# Altium schematic symbol library Maxim Amplifiers and Comparators.SchLib: 420 symbols (part 10 of 16)
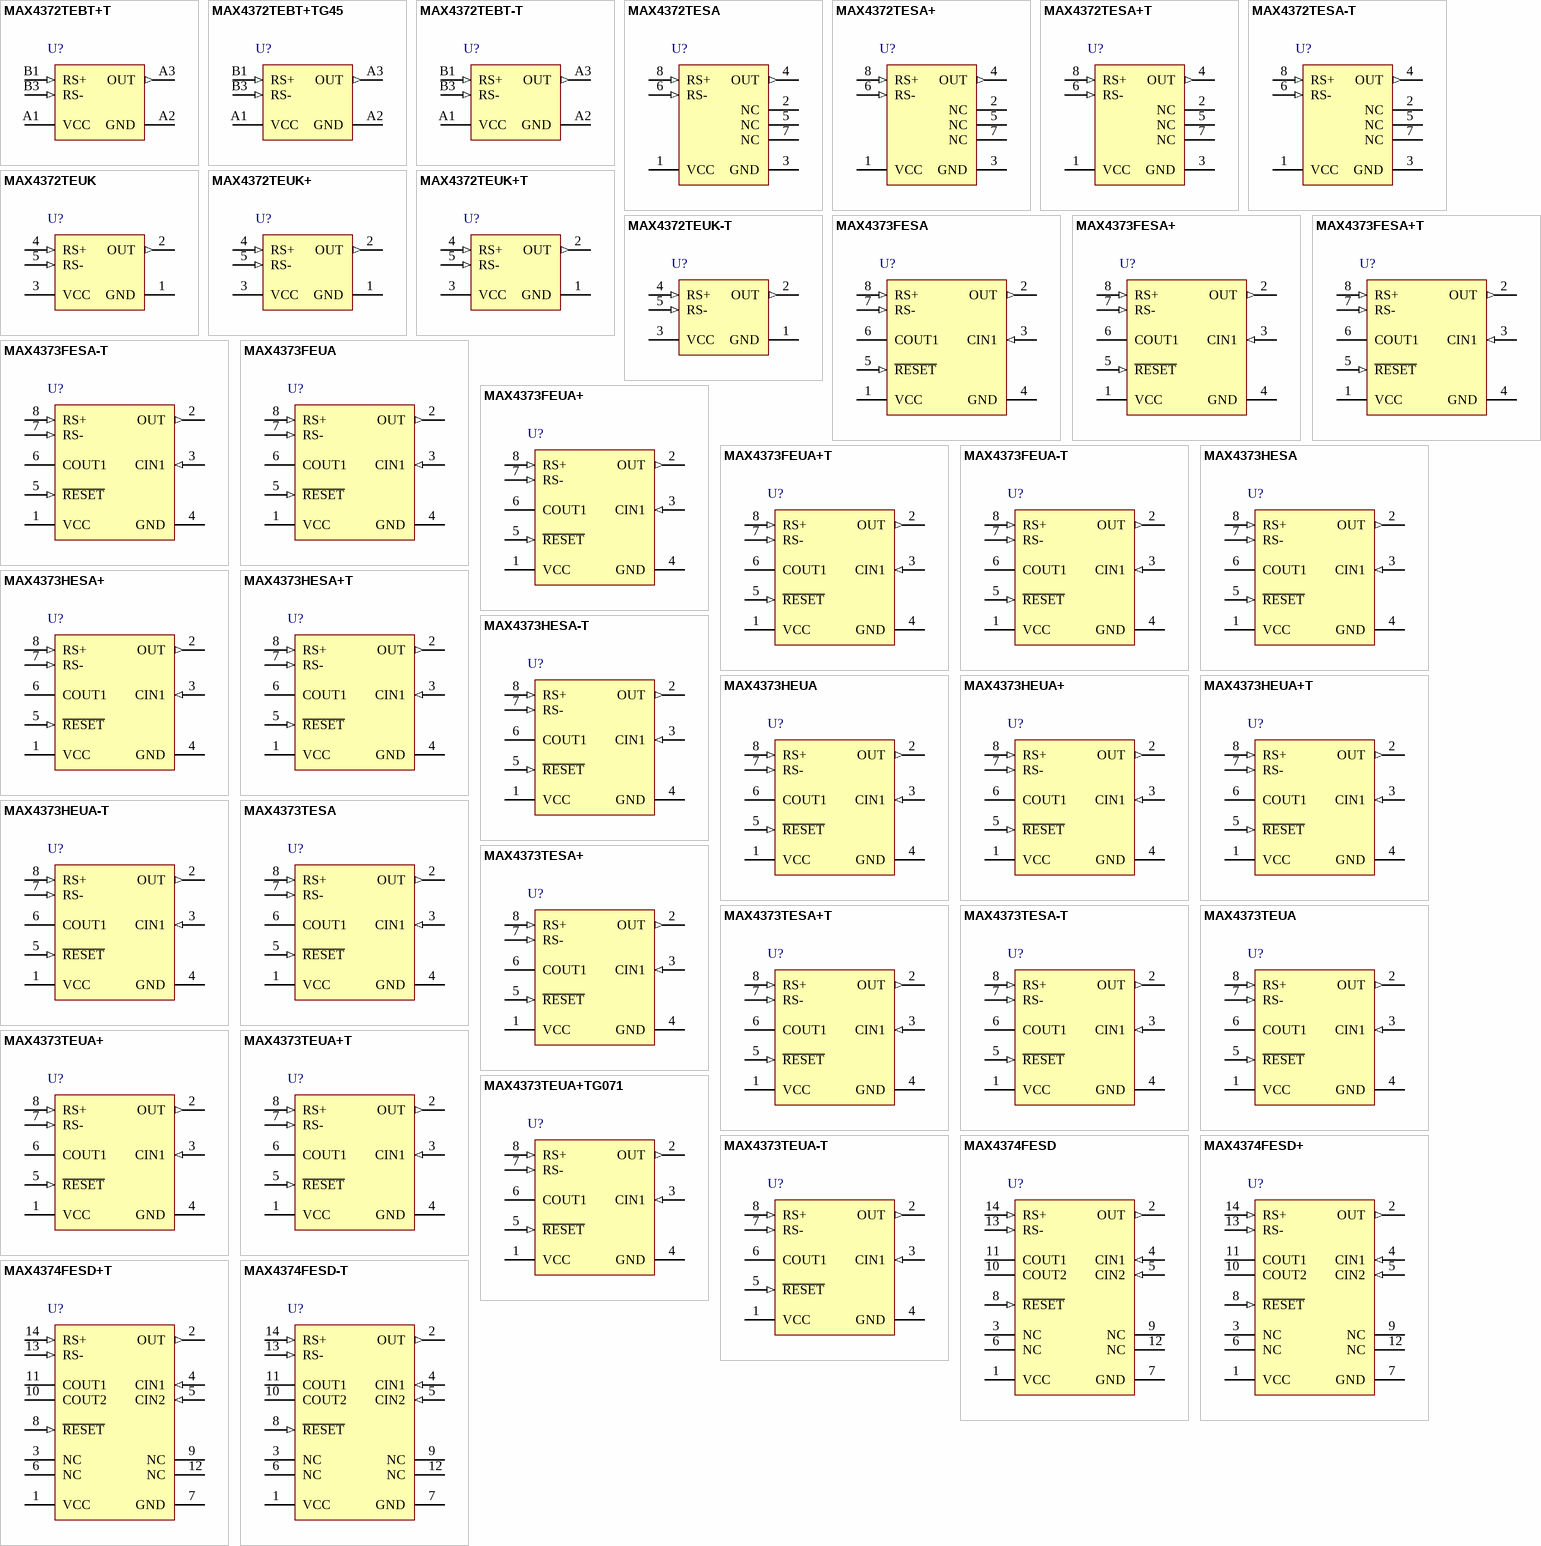
[diagram p19: symbols MAX4372TEBT+T to MAX4374FESD-T]

## MAX4374FESD+T
designator U?
Low-cost, Micropower, High-Side Current-Sense Amplifier + 2 Comparators + Reference, 50 V / V Gain, -40 to 85 degC, 14-Pin SOIC (S14+1), Pb-Free, Tape and Reel; PartNumber: MAX4374FESD+T; Bi-Dir. Curr. Sense: No; Gain: 20 V/V, 50 V/V ,100 V/V; DatasheetVersion: Rev. 4; PackageVersion: Rev. D, 10/2012; PackageReference: S14+1; PackageDescription: 14-Pin Small-Outline IC, Narrow (0.15in), Body 3.9 x 8.65 mm, Pitch 1.27 mm; Supplier 1: Digi-Key; Supplier Part Number 1: MAX4374FESD+T-ND; Supplier 2: Mouser; Supplier Part Number 2: 700-MAX4374FESD+T; Mounting Technology: Surface Mount; Code_JEDEC: MS-012; ComponentLink1Description: Manufacturer URL; ComponentLink1URL: http://www.maximintegrated.com/; ComponentLink2Description: Datasheet; ComponentLink2URL: http://datasheets.maximintegrated.com/en/ds/MAX4373-MAX4375.pdf; ComponentLink3Description: Package Specification; ComponentLink3URL: http://pdfserv.maximintegrated.com/package_dwgs/21-0041.PDF
footprint MAXM-S14+1_N (SOIC, 14-Leads, Body 8.65x3.9mm, Pitch 1.27mm, IPC Medium Density)
footprint MAXM-S14+1_L (SOIC, 14-Leads, Body 8.65x3.9mm, Pitch 1.27mm, IPC High Density)
footprint MAXM-S14+1_M (SOIC, 14-Leads, Body 8.65x3.9mm, Pitch 1.27mm, IPC Low Density)
pins: 1 VCC (power) "Supply Voltage Input", 2 OUT (out) "Voltage Output. VOUT is proportional to VSENSE (VRS+ - VRS-).", 3 NC "No Connection. Not internally connected.", 4 CIN1 (in) "Comparator Input 1. Positive input of an internal comparator. The negative terminal is connected to a 0.6V internal reference.", 5 CIN2 (in) "Comparator Input 2. Terminal of a second internal comparator. The positive terminal for the MAX4374 and the negative terminal for the MAX4375. The other terminal is connected to a 0.6V internal reference.", 6 NC "No Connection. Not internally connected.", 7 GND (power) "Ground", 8 ~{RESET} (in) "Reset Input. Resets the output latch of the comparator at CIN1.", 9 NC "No Connection. Not internally connected.", 10 COUT2 (oc) "Open-Drain Comparator Output. Output of the second unlatched internal comparator.", 11 COUT1 (oc) "Open-Drain Comparator Output. Latching output of the comparator controlled by CIN1. Connect R\E\S\E\T\ to GND to disable the latch.", 12 NC "No Connection. Not internally connected.", 13 RS- (in) "Load-Side Connection for the External Sense Resistor", 14 RS+ (in) "Power Connection to the External Sense Resistor"

## MAX4374FESD-T
designator U?
Low-cost, Micropower, High-Side Current-Sense Amplifier + 2 Comparators + Reference, 50 V / V Gain, -40 to 85 degC, 14-Pin SOIC (S14-1), Tape and Reel; PartNumber: MAX4374FESD-T; Bi-Dir. Curr. Sense: No; Gain: 20 V/V, 50 V/V ,100 V/V; DatasheetVersion: Rev. 4; PackageVersion: Rev. D, 10/2012; PackageReference: S14-1; PackageDescription: 14-Pin Small-Outline IC, Narrow (0.15in), Body 3.9 x 8.65 mm, Pitch 1.27 mm; Supplier 1: Digi-Key; Supplier Part Number 1: MAX4374FESD-T-ND; Supplier 2: Mouser; Supplier Part Number 2: 700-MAX4374FESD-T-; Mounting Technology: Surface Mount; Code_JEDEC: MS-012; ComponentLink1Description: Manufacturer URL; ComponentLink1URL: http://www.maximintegrated.com/; ComponentLink2Description: Datasheet; ComponentLink2URL: http://datasheets.maximintegrated.com/en/ds/MAX4373-MAX4375.pdf; ComponentLink3Description: Package Specification; ComponentLink3URL: http://pdfserv.maximintegrated.com/package_dwgs/21-0041.PDF
footprint MAXM-S14-1_N (SOIC, 14-Leads, Body 8.65x3.9mm, Pitch 1.27mm, IPC Medium Density)
footprint MAXM-S14-1_L (SOIC, 14-Leads, Body 8.65x3.9mm, Pitch 1.27mm, IPC High Density)
footprint MAXM-S14-1_M (SOIC, 14-Leads, Body 8.65x3.9mm, Pitch 1.27mm, IPC Low Density)
pins: 1 VCC (power) "Supply Voltage Input", 2 OUT (out) "Voltage Output. VOUT is proportional to VSENSE (VRS+ - VRS-).", 3 NC "No Connection. Not internally connected.", 4 CIN1 (in) "Comparator Input 1. Positive input of an internal comparator. The negative terminal is connected to a 0.6V internal reference.", 5 CIN2 (in) "Comparator Input 2. Terminal of a second internal comparator. The positive terminal for the MAX4374 and the negative terminal for the MAX4375. The other terminal is connected to a 0.6V internal reference.", 6 NC "No Connection. Not internally connected.", 7 GND (power) "Ground", 8 ~{RESET} (in) "Reset Input. Resets the output latch of the comparator at CIN1.", 9 NC "No Connection. Not internally connected.", 10 COUT2 (oc) "Open-Drain Comparator Output. Output of the second unlatched internal comparator.", 11 COUT1 (oc) "Open-Drain Comparator Output. Latching output of the comparator controlled by CIN1. Connect R\E\S\E\T\ to GND to disable the latch.", 12 NC "No Connection. Not internally connected.", 13 RS- (in) "Load-Side Connection for the External Sense Resistor", 14 RS+ (in) "Power Connection to the External Sense Resistor"

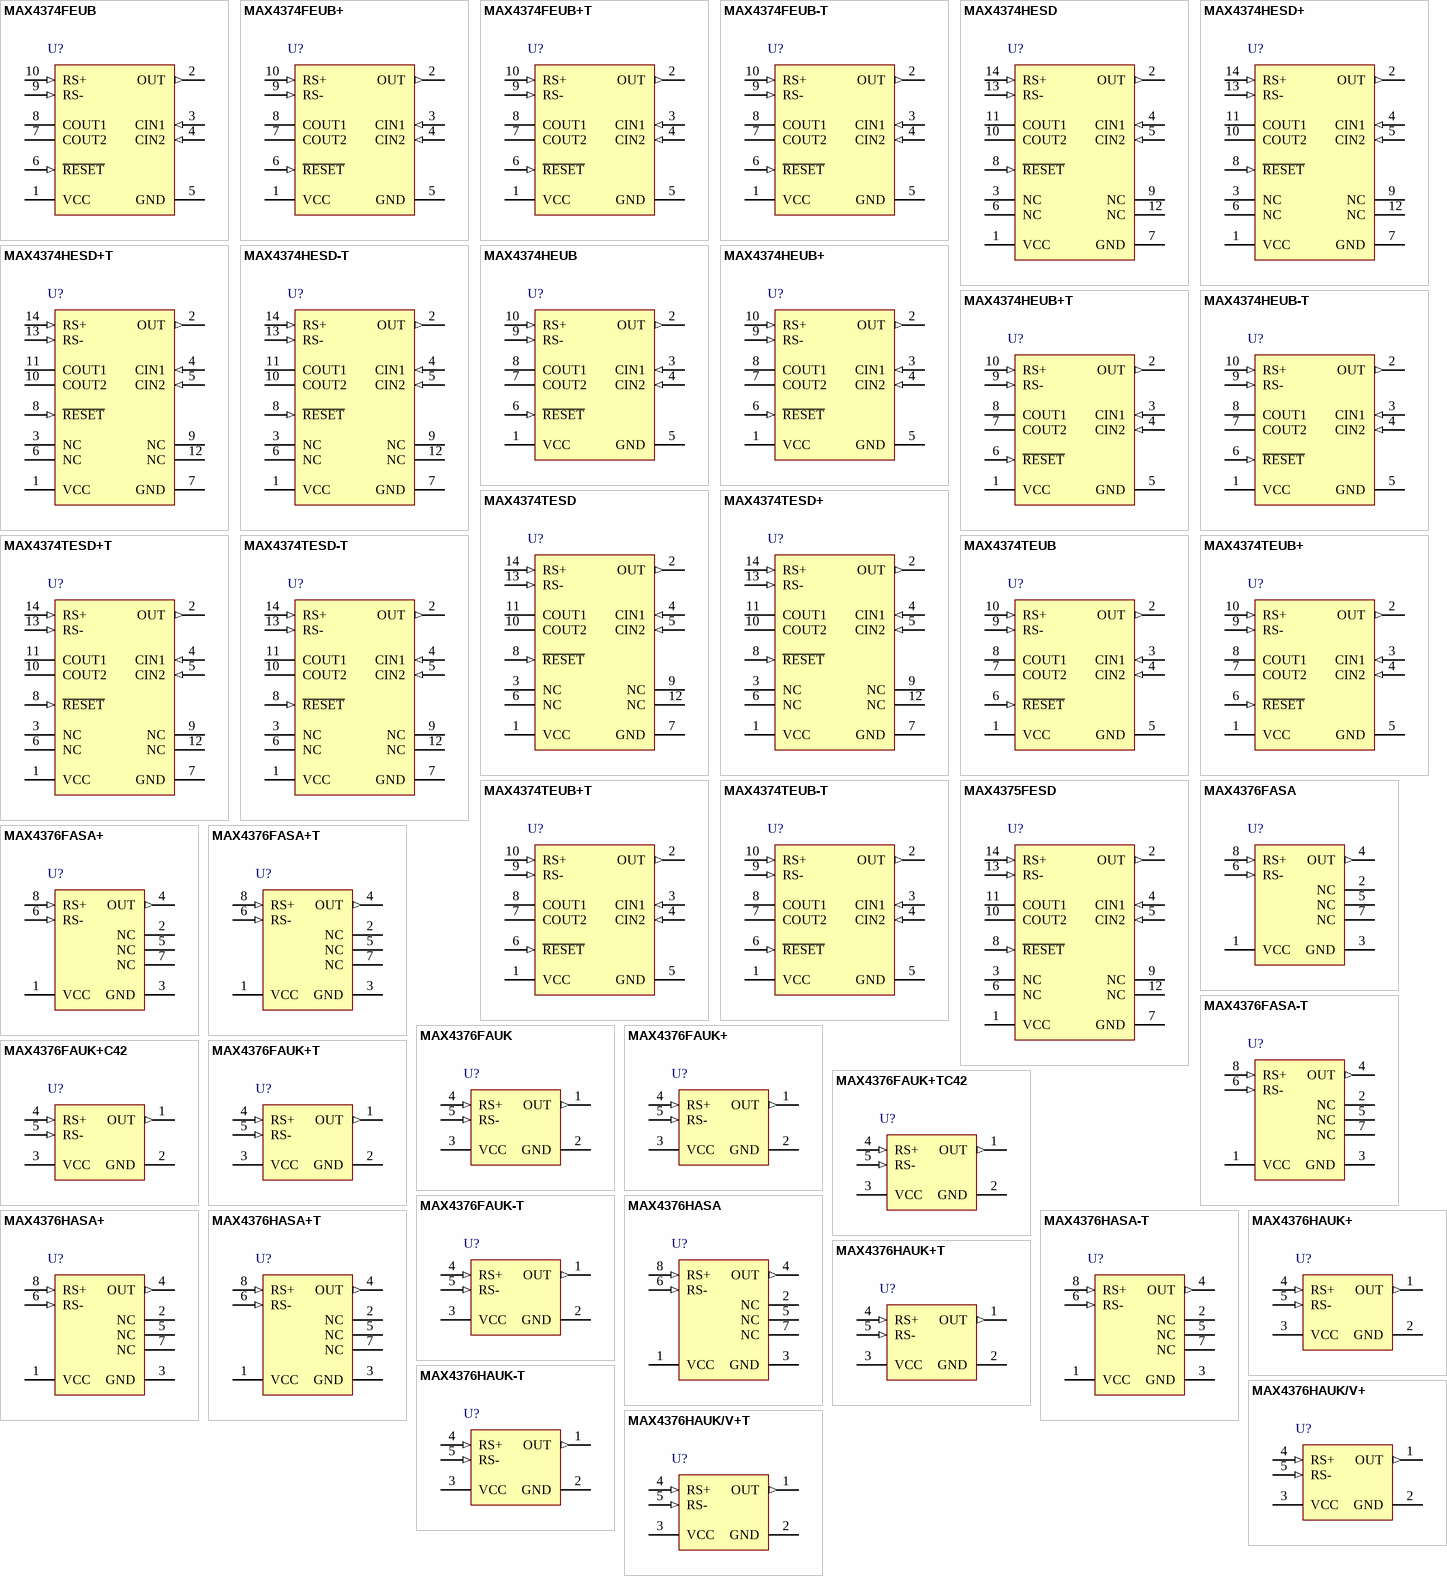
[diagram p6: symbols MAX4374FEUB to MAX4376HAUK/V+T]

## MAX4374FEUB
designator U?
Low-cost, Micropower, High-Side Current-Sense Amplifier + 2 Comparators + Reference, 50 V / V Gain, -40 to 85 degC, 10-Pin SOP (U10-2); PartNumber: MAX4374FEUB; Bi-Dir. Curr. Sense: No; Gain: 20 V/V, 50 V/V ,100 V/V; DatasheetVersion: Rev. 4; PackageVersion: Rev. L, 07/2008; PackageReference: U10-2; PackageDescription: 10-Pin Micro-MAX, Thin Shrink Small-Outline (U10-2), Body 3 x 3 mm, Pitch 0.5 mm; Supplier 1: Mouser; Supplier Part Number 1: N/A; Mounting Technology: Surface Mount; Code_JEDEC: MO-187; ComponentLink1Description: Manufacturer URL; ComponentLink1URL: http://www.maximintegrated.com/; ComponentLink2Description: Datasheet; ComponentLink2URL: http://datasheets.maximintegrated.com/en/ds/MAX4373-MAX4375.pdf; ComponentLink3Description: Package Specification; ComponentLink3URL: http://pdfserv.maximintegrated.com/package_dwgs/21-0061.PDF
footprint MAXM-U10-2_N (SOP, 10-Leads, Body 3x3mm, Pitch 0.5mm, IPC Medium Density)
footprint MAXM-U10-2_L (SOP, 10-Leads, Body 3x3mm, Pitch 0.5mm, IPC High Density)
footprint MAXM-U10-2_M (SOP, 10-Leads, Body 3x3mm, Pitch 0.5mm, IPC Low Density)
pins: 1 VCC (power) "Supply Voltage Input", 2 OUT (out) "Voltage Output. VOUT is proportional to VSENSE (VRS+ - VRS-).", 3 CIN1 (in) "Comparator Input 1. Positive input of an internal comparator. The negative terminal is connected to a 0.6V internal reference.", 4 CIN2 (in) "Comparator Input 2. Terminal of a second internal comparator. The positive terminal for the MAX4374 and the negative terminal for the MAX4375. The other terminal is connected to a 0.6V internal reference.", 5 GND (power) "Ground", 6 ~{RESET} (in) "Reset Input. Resets the output latch of the comparator at CIN1.", 7 COUT2 (oc) "Open-Drain Comparator Output. Output of the second unlatched internal comparator.", 8 COUT1 (oc) "Open-Drain Comparator Output. Latching output of the comparator controlled by CIN1. Connect R\E\S\E\T\ to GND to disable the latch.", 9 RS- (in) "Load-Side Connection for the External Sense Resistor", 10 RS+ (in) "Power Connection to the External Sense Resistor"

## MAX4374FEUB+
designator U?
Low-cost, Micropower, High-Side Current-Sense Amplifier + 2 Comparators + Reference, 50 V / V Gain, -40 to 85 degC, 10-Pin SOP (U10+2), Pb-Free; PartNumber: MAX4374FEUB+; Bi-Dir. Curr. Sense: No; Gain: 20 V/V, 50 V/V ,100 V/V; DatasheetVersion: Rev. 4; PackageVersion: Rev. L, 07/2008; PackageReference: U10+2; PackageDescription: 10-Pin Micro-MAX, Thin Shrink Small-Outline (U10+2), Body 3 x 3 mm, Pitch 0.5 mm; Supplier 1: Digi-Key; Supplier Part Number 1: MAX4374FEUB+-ND; Supplier 2: Mouser; Supplier Part Number 2: 700-MAX4374FEUB; Mounting Technology: Surface Mount; Code_JEDEC: MO-187; ComponentLink1Description: Manufacturer URL; ComponentLink1URL: http://www.maximintegrated.com/; ComponentLink2Description: Datasheet; ComponentLink2URL: http://datasheets.maximintegrated.com/en/ds/MAX4373-MAX4375.pdf; ComponentLink3Description: Package Specification; ComponentLink3URL: http://pdfserv.maximintegrated.com/package_dwgs/21-0061.PDF
footprint MAXM-U10+2_N (SOP, 10-Leads, Body 3x3mm, Pitch 0.5mm, IPC Medium Density)
footprint MAXM-U10+2_L (SOP, 10-Leads, Body 3x3mm, Pitch 0.5mm, IPC High Density)
footprint MAXM-U10+2_M (SOP, 10-Leads, Body 3x3mm, Pitch 0.5mm, IPC Low Density)
pins: 1 VCC (power) "Supply Voltage Input", 2 OUT (out) "Voltage Output. VOUT is proportional to VSENSE (VRS+ - VRS-).", 3 CIN1 (in) "Comparator Input 1. Positive input of an internal comparator. The negative terminal is connected to a 0.6V internal reference.", 4 CIN2 (in) "Comparator Input 2. Terminal of a second internal comparator. The positive terminal for the MAX4374 and the negative terminal for the MAX4375. The other terminal is connected to a 0.6V internal reference.", 5 GND (power) "Ground", 6 ~{RESET} (in) "Reset Input. Resets the output latch of the comparator at CIN1.", 7 COUT2 (oc) "Open-Drain Comparator Output. Output of the second unlatched internal comparator.", 8 COUT1 (oc) "Open-Drain Comparator Output. Latching output of the comparator controlled by CIN1. Connect R\E\S\E\T\ to GND to disable the latch.", 9 RS- (in) "Load-Side Connection for the External Sense Resistor", 10 RS+ (in) "Power Connection to the External Sense Resistor"

## MAX4374FEUB+T
designator U?
Low-cost, Micropower, High-Side Current-Sense Amplifier + 2 Comparators + Reference, 50 V / V Gain, -40 to 85 degC, 10-Pin SOP (U10+2), Pb-Free, Tape and Reel; PartNumber: MAX4374FEUB+T; Bi-Dir. Curr. Sense: No; Gain: 20 V/V, 50 V/V ,100 V/V; DatasheetVersion: Rev. 4; PackageVersion: Rev. L, 07/2008; PackageReference: U10+2; PackageDescription: 10-Pin Micro-MAX, Thin Shrink Small-Outline (U10+2), Body 3 x 3 mm, Pitch 0.5 mm; Supplier 1: Digi-Key; Supplier Part Number 1: MAX4374FEUB+T-ND; Supplier 2: Mouser; Supplier Part Number 2: 700-MAX4374FEUB+T; Mounting Technology: Surface Mount; Code_JEDEC: MO-187; ComponentLink1Description: Manufacturer URL; ComponentLink1URL: http://www.maximintegrated.com/; ComponentLink2Description: Datasheet; ComponentLink2URL: http://datasheets.maximintegrated.com/en/ds/MAX4373-MAX4375.pdf; ComponentLink3Description: Package Specification; ComponentLink3URL: http://pdfserv.maximintegrated.com/package_dwgs/21-0061.PDF
footprint MAXM-U10+2_N (SOP, 10-Leads, Body 3x3mm, Pitch 0.5mm, IPC Medium Density)
footprint MAXM-U10+2_L (SOP, 10-Leads, Body 3x3mm, Pitch 0.5mm, IPC High Density)
footprint MAXM-U10+2_M (SOP, 10-Leads, Body 3x3mm, Pitch 0.5mm, IPC Low Density)
pins: 1 VCC (power) "Supply Voltage Input", 2 OUT (out) "Voltage Output. VOUT is proportional to VSENSE (VRS+ - VRS-).", 3 CIN1 (in) "Comparator Input 1. Positive input of an internal comparator. The negative terminal is connected to a 0.6V internal reference.", 4 CIN2 (in) "Comparator Input 2. Terminal of a second internal comparator. The positive terminal for the MAX4374 and the negative terminal for the MAX4375. The other terminal is connected to a 0.6V internal reference.", 5 GND (power) "Ground", 6 ~{RESET} (in) "Reset Input. Resets the output latch of the comparator at CIN1.", 7 COUT2 (oc) "Open-Drain Comparator Output. Output of the second unlatched internal comparator.", 8 COUT1 (oc) "Open-Drain Comparator Output. Latching output of the comparator controlled by CIN1. Connect R\E\S\E\T\ to GND to disable the latch.", 9 RS- (in) "Load-Side Connection for the External Sense Resistor", 10 RS+ (in) "Power Connection to the External Sense Resistor"

## MAX4374FEUB-T
designator U?
Low-cost, Micropower, High-Side Current-Sense Amplifier + 2 Comparators + Reference, 50 V / V Gain, -40 to 85 degC, 10-Pin SOP (U10-2), Tape and Reel; PartNumber: MAX4374FEUB-T; Bi-Dir. Curr. Sense: No; Gain: 20 V/V, 50 V/V ,100 V/V; DatasheetVersion: Rev. 4; PackageVersion: Rev. L, 07/2008; PackageReference: U10-2; PackageDescription: 10-Pin Micro-MAX, Thin Shrink Small-Outline (U10-2), Body 3 x 3 mm, Pitch 0.5 mm; Supplier 1: Mouser; Supplier Part Number 1: N/A; Mounting Technology: Surface Mount; Code_JEDEC: MO-187; ComponentLink1Description: Manufacturer URL; ComponentLink1URL: http://www.maximintegrated.com/; ComponentLink2Description: Datasheet; ComponentLink2URL: http://datasheets.maximintegrated.com/en/ds/MAX4373-MAX4375.pdf; ComponentLink3Description: Package Specification; ComponentLink3URL: http://pdfserv.maximintegrated.com/package_dwgs/21-0061.PDF
footprint MAXM-U10-2_N (SOP, 10-Leads, Body 3x3mm, Pitch 0.5mm, IPC Medium Density)
footprint MAXM-U10-2_L (SOP, 10-Leads, Body 3x3mm, Pitch 0.5mm, IPC High Density)
footprint MAXM-U10-2_M (SOP, 10-Leads, Body 3x3mm, Pitch 0.5mm, IPC Low Density)
pins: 1 VCC (power) "Supply Voltage Input", 2 OUT (out) "Voltage Output. VOUT is proportional to VSENSE (VRS+ - VRS-).", 3 CIN1 (in) "Comparator Input 1. Positive input of an internal comparator. The negative terminal is connected to a 0.6V internal reference.", 4 CIN2 (in) "Comparator Input 2. Terminal of a second internal comparator. The positive terminal for the MAX4374 and the negative terminal for the MAX4375. The other terminal is connected to a 0.6V internal reference.", 5 GND (power) "Ground", 6 ~{RESET} (in) "Reset Input. Resets the output latch of the comparator at CIN1.", 7 COUT2 (oc) "Open-Drain Comparator Output. Output of the second unlatched internal comparator.", 8 COUT1 (oc) "Open-Drain Comparator Output. Latching output of the comparator controlled by CIN1. Connect R\E\S\E\T\ to GND to disable the latch.", 9 RS- (in) "Load-Side Connection for the External Sense Resistor", 10 RS+ (in) "Power Connection to the External Sense Resistor"

## MAX4374HESD
designator U?
Low-cost, Micropower, High-Side Current-Sense Amplifier + 2 Comparators + Reference, 100 V / V Gain, -40 to 85 degC, 14-Pin SOIC (S14-1); PartNumber: MAX4374HESD; Bi-Dir. Curr. Sense: No; Gain: 20 V/V, 50 V/V ,100 V/V; DatasheetVersion: Rev. 4; PackageVersion: Rev. D, 10/2012; PackageReference: S14-1; PackageDescription: 14-Pin Small-Outline IC, Narrow (0.15in), Body 3.9 x 8.65 mm, Pitch 1.27 mm; Supplier 1: Digi-Key; Supplier Part Number 1: MAX4374HESD-ND; Supplier 2: Mouser; Supplier Part Number 2: 700-MAX4374HESD-NR; Mounting Technology: Surface Mount; Code_JEDEC: MS-012; ComponentLink1Description: Manufacturer URL; ComponentLink1URL: http://www.maximintegrated.com/; ComponentLink2Description: Datasheet; ComponentLink2URL: http://datasheets.maximintegrated.com/en/ds/MAX4373-MAX4375.pdf; ComponentLink3Description: Package Specification; ComponentLink3URL: http://pdfserv.maximintegrated.com/package_dwgs/21-0041.PDF
footprint MAXM-S14-1_N (SOIC, 14-Leads, Body 8.65x3.9mm, Pitch 1.27mm, IPC Medium Density)
footprint MAXM-S14-1_L (SOIC, 14-Leads, Body 8.65x3.9mm, Pitch 1.27mm, IPC High Density)
footprint MAXM-S14-1_M (SOIC, 14-Leads, Body 8.65x3.9mm, Pitch 1.27mm, IPC Low Density)
pins: 1 VCC (power) "Supply Voltage Input", 2 OUT (out) "Voltage Output. VOUT is proportional to VSENSE (VRS+ - VRS-).", 3 NC "No Connection. Not internally connected.", 4 CIN1 (in) "Comparator Input 1. Positive input of an internal comparator. The negative terminal is connected to a 0.6V internal reference.", 5 CIN2 (in) "Comparator Input 2. Terminal of a second internal comparator. The positive terminal for the MAX4374 and the negative terminal for the MAX4375. The other terminal is connected to a 0.6V internal reference.", 6 NC "No Connection. Not internally connected.", 7 GND (power) "Ground", 8 ~{RESET} (in) "Reset Input. Resets the output latch of the comparator at CIN1.", 9 NC "No Connection. Not internally connected.", 10 COUT2 (oc) "Open-Drain Comparator Output. Output of the second unlatched internal comparator.", 11 COUT1 (oc) "Open-Drain Comparator Output. Latching output of the comparator controlled by CIN1. Connect R\E\S\E\T\ to GND to disable the latch.", 12 NC "No Connection. Not internally connected.", 13 RS- (in) "Load-Side Connection for the External Sense Resistor", 14 RS+ (in) "Power Connection to the External Sense Resistor"

## MAX4374HESD+
designator U?
Low-cost, Micropower, High-Side Current-Sense Amplifier + 2 Comparators + Reference, 100 V / V Gain, -40 to 85 degC, 14-Pin SOIC (S14+1), Pb-Free; PartNumber: MAX4374HESD+; Bi-Dir. Curr. Sense: No; Gain: 20 V/V, 50 V/V ,100 V/V; DatasheetVersion: Rev. 4; PackageVersion: Rev. D, 10/2012; PackageReference: S14+1; PackageDescription: 14-Pin Small-Outline IC, Narrow (0.15in), Body 3.9 x 8.65 mm, Pitch 1.27 mm; Supplier 1: Digi-Key; Supplier Part Number 1: MAX4374HESD+-ND; Supplier 2: Mouser; Supplier Part Number 2: 700-MAX4374HESD; Mounting Technology: Surface Mount; Code_JEDEC: MS-012; ComponentLink1Description: Manufacturer URL; ComponentLink1URL: http://www.maximintegrated.com/; ComponentLink2Description: Datasheet; ComponentLink2URL: http://datasheets.maximintegrated.com/en/ds/MAX4373-MAX4375.pdf; ComponentLink3Description: Package Specification; ComponentLink3URL: http://pdfserv.maximintegrated.com/package_dwgs/21-0041.PDF
footprint MAXM-S14+1_N (SOIC, 14-Leads, Body 8.65x3.9mm, Pitch 1.27mm, IPC Medium Density)
footprint MAXM-S14+1_L (SOIC, 14-Leads, Body 8.65x3.9mm, Pitch 1.27mm, IPC High Density)
footprint MAXM-S14+1_M (SOIC, 14-Leads, Body 8.65x3.9mm, Pitch 1.27mm, IPC Low Density)
pins: 1 VCC (power) "Supply Voltage Input", 2 OUT (out) "Voltage Output. VOUT is proportional to VSENSE (VRS+ - VRS-).", 3 NC "No Connection. Not internally connected.", 4 CIN1 (in) "Comparator Input 1. Positive input of an internal comparator. The negative terminal is connected to a 0.6V internal reference.", 5 CIN2 (in) "Comparator Input 2. Terminal of a second internal comparator. The positive terminal for the MAX4374 and the negative terminal for the MAX4375. The other terminal is connected to a 0.6V internal reference.", 6 NC "No Connection. Not internally connected.", 7 GND (power) "Ground", 8 ~{RESET} (in) "Reset Input. Resets the output latch of the comparator at CIN1.", 9 NC "No Connection. Not internally connected.", 10 COUT2 (oc) "Open-Drain Comparator Output. Output of the second unlatched internal comparator.", 11 COUT1 (oc) "Open-Drain Comparator Output. Latching output of the comparator controlled by CIN1. Connect R\E\S\E\T\ to GND to disable the latch.", 12 NC "No Connection. Not internally connected.", 13 RS- (in) "Load-Side Connection for the External Sense Resistor", 14 RS+ (in) "Power Connection to the External Sense Resistor"

## MAX4374HESD+T
designator U?
Low-cost, Micropower, High-Side Current-Sense Amplifier + 2 Comparators + Reference, 100 V / V Gain, -40 to 85 degC, 14-Pin SOIC (S14+1), Pb-Free, Tape and Reel; PartNumber: MAX4374HESD+T; Bi-Dir. Curr. Sense: No; Gain: 20 V/V, 50 V/V ,100 V/V; DatasheetVersion: Rev. 4; PackageVersion: Rev. D, 10/2012; PackageReference: S14+1; PackageDescription: 14-Pin Small-Outline IC, Narrow (0.15in), Body 3.9 x 8.65 mm, Pitch 1.27 mm; Supplier 1: Digi-Key; Supplier Part Number 1: MAX4374HESD+T-ND; Supplier 2: Mouser; Supplier Part Number 2: 700-MAX4374HESD+T; Mounting Technology: Surface Mount; Code_JEDEC: MS-012; ComponentLink1Description: Manufacturer URL; ComponentLink1URL: http://www.maximintegrated.com/; ComponentLink2Description: Datasheet; ComponentLink2URL: http://datasheets.maximintegrated.com/en/ds/MAX4373-MAX4375.pdf; ComponentLink3Description: Package Specification; ComponentLink3URL: http://pdfserv.maximintegrated.com/package_dwgs/21-0041.PDF
footprint MAXM-S14+1_N (SOIC, 14-Leads, Body 8.65x3.9mm, Pitch 1.27mm, IPC Medium Density)
footprint MAXM-S14+1_L (SOIC, 14-Leads, Body 8.65x3.9mm, Pitch 1.27mm, IPC High Density)
footprint MAXM-S14+1_M (SOIC, 14-Leads, Body 8.65x3.9mm, Pitch 1.27mm, IPC Low Density)
pins: 1 VCC (power) "Supply Voltage Input", 2 OUT (out) "Voltage Output. VOUT is proportional to VSENSE (VRS+ - VRS-).", 3 NC "No Connection. Not internally connected.", 4 CIN1 (in) "Comparator Input 1. Positive input of an internal comparator. The negative terminal is connected to a 0.6V internal reference.", 5 CIN2 (in) "Comparator Input 2. Terminal of a second internal comparator. The positive terminal for the MAX4374 and the negative terminal for the MAX4375. The other terminal is connected to a 0.6V internal reference.", 6 NC "No Connection. Not internally connected.", 7 GND (power) "Ground", 8 ~{RESET} (in) "Reset Input. Resets the output latch of the comparator at CIN1.", 9 NC "No Connection. Not internally connected.", 10 COUT2 (oc) "Open-Drain Comparator Output. Output of the second unlatched internal comparator.", 11 COUT1 (oc) "Open-Drain Comparator Output. Latching output of the comparator controlled by CIN1. Connect R\E\S\E\T\ to GND to disable the latch.", 12 NC "No Connection. Not internally connected.", 13 RS- (in) "Load-Side Connection for the External Sense Resistor", 14 RS+ (in) "Power Connection to the External Sense Resistor"

## MAX4374HESD-T
designator U?
Low-cost, Micropower, High-Side Current-Sense Amplifier + 2 Comparators + Reference, 100 V / V Gain, -40 to 85 degC, 14-Pin SOIC (S14-1), Tape and Reel; PartNumber: MAX4374HESD-T; Bi-Dir. Curr. Sense: No; Gain: 20 V/V, 50 V/V ,100 V/V; DatasheetVersion: Rev. 4; PackageVersion: Rev. D, 10/2012; PackageReference: S14-1; PackageDescription: 14-Pin Small-Outline IC, Narrow (0.15in), Body 3.9 x 8.65 mm, Pitch 1.27 mm; Supplier 1: Digi-Key; Supplier Part Number 1: MAX4374HESD-T-ND; Supplier 2: Mouser; Supplier Part Number 2: 700-MAX4374HESD-T-; Mounting Technology: Surface Mount; Code_JEDEC: MS-012; ComponentLink1Description: Manufacturer URL; ComponentLink1URL: http://www.maximintegrated.com/; ComponentLink2Description: Datasheet; ComponentLink2URL: http://datasheets.maximintegrated.com/en/ds/MAX4373-MAX4375.pdf; ComponentLink3Description: Package Specification; ComponentLink3URL: http://pdfserv.maximintegrated.com/package_dwgs/21-0041.PDF
footprint MAXM-S14-1_N (SOIC, 14-Leads, Body 8.65x3.9mm, Pitch 1.27mm, IPC Medium Density)
footprint MAXM-S14-1_L (SOIC, 14-Leads, Body 8.65x3.9mm, Pitch 1.27mm, IPC High Density)
footprint MAXM-S14-1_M (SOIC, 14-Leads, Body 8.65x3.9mm, Pitch 1.27mm, IPC Low Density)
pins: 1 VCC (power) "Supply Voltage Input", 2 OUT (out) "Voltage Output. VOUT is proportional to VSENSE (VRS+ - VRS-).", 3 NC "No Connection. Not internally connected.", 4 CIN1 (in) "Comparator Input 1. Positive input of an internal comparator. The negative terminal is connected to a 0.6V internal reference.", 5 CIN2 (in) "Comparator Input 2. Terminal of a second internal comparator. The positive terminal for the MAX4374 and the negative terminal for the MAX4375. The other terminal is connected to a 0.6V internal reference.", 6 NC "No Connection. Not internally connected.", 7 GND (power) "Ground", 8 ~{RESET} (in) "Reset Input. Resets the output latch of the comparator at CIN1.", 9 NC "No Connection. Not internally connected.", 10 COUT2 (oc) "Open-Drain Comparator Output. Output of the second unlatched internal comparator.", 11 COUT1 (oc) "Open-Drain Comparator Output. Latching output of the comparator controlled by CIN1. Connect R\E\S\E\T\ to GND to disable the latch.", 12 NC "No Connection. Not internally connected.", 13 RS- (in) "Load-Side Connection for the External Sense Resistor", 14 RS+ (in) "Power Connection to the External Sense Resistor"

## MAX4374HEUB
designator U?
Low-cost, Micropower, High-Side Current-Sense Amplifier + 2 Comparators + Reference, 100 V / V Gain, -40 to 85 degC, 10-Pin SOP (U10-2); PartNumber: MAX4374HEUB; Bi-Dir. Curr. Sense: No; Gain: 20 V/V, 50 V/V ,100 V/V; DatasheetVersion: Rev. 4; PackageVersion: Rev. L, 07/2008; PackageReference: U10-2; PackageDescription: 10-Pin Micro-MAX, Thin Shrink Small-Outline (U10-2), Body 3 x 3 mm, Pitch 0.5 mm; Supplier 1: Digi-Key; Supplier Part Number 1: MAX4374HEUB-ND; Supplier 2: Mouser; Supplier Part Number 2: 700-MAX4374HEUB-NR; Mounting Technology: Surface Mount; Code_JEDEC: MO-187; ComponentLink1Description: Manufacturer URL; ComponentLink1URL: http://www.maximintegrated.com/; ComponentLink2Description: Datasheet; ComponentLink2URL: http://datasheets.maximintegrated.com/en/ds/MAX4373-MAX4375.pdf; ComponentLink3Description: Package Specification; ComponentLink3URL: http://pdfserv.maximintegrated.com/package_dwgs/21-0061.PDF
footprint MAXM-U10-2_N (SOP, 10-Leads, Body 3x3mm, Pitch 0.5mm, IPC Medium Density)
footprint MAXM-U10-2_L (SOP, 10-Leads, Body 3x3mm, Pitch 0.5mm, IPC High Density)
footprint MAXM-U10-2_M (SOP, 10-Leads, Body 3x3mm, Pitch 0.5mm, IPC Low Density)
pins: 1 VCC (power) "Supply Voltage Input", 2 OUT (out) "Voltage Output. VOUT is proportional to VSENSE (VRS+ - VRS-).", 3 CIN1 (in) "Comparator Input 1. Positive input of an internal comparator. The negative terminal is connected to a 0.6V internal reference.", 4 CIN2 (in) "Comparator Input 2. Terminal of a second internal comparator. The positive terminal for the MAX4374 and the negative terminal for the MAX4375. The other terminal is connected to a 0.6V internal reference.", 5 GND (power) "Ground", 6 ~{RESET} (in) "Reset Input. Resets the output latch of the comparator at CIN1.", 7 COUT2 (oc) "Open-Drain Comparator Output. Output of the second unlatched internal comparator.", 8 COUT1 (oc) "Open-Drain Comparator Output. Latching output of the comparator controlled by CIN1. Connect R\E\S\E\T\ to GND to disable the latch.", 9 RS- (in) "Load-Side Connection for the External Sense Resistor", 10 RS+ (in) "Power Connection to the External Sense Resistor"

## MAX4374HEUB+
designator U?
Low-cost, Micropower, High-Side Current-Sense Amplifier + 2 Comparators + Reference, 100 V / V Gain, -40 to 85 degC, 10-Pin SOP (U10+2), Pb-Free; PartNumber: MAX4374HEUB+; Bi-Dir. Curr. Sense: No; Gain: 20 V/V, 50 V/V ,100 V/V; DatasheetVersion: Rev. 4; PackageVersion: Rev. L, 07/2008; PackageReference: U10+2; PackageDescription: 10-Pin Micro-MAX, Thin Shrink Small-Outline (U10+2), Body 3 x 3 mm, Pitch 0.5 mm; Supplier 1: Digi-Key; Supplier Part Number 1: MAX4374HEUB+-ND; Supplier 2: Mouser; Supplier Part Number 2: 700-MAX4374HEUB; Mounting Technology: Surface Mount; Code_JEDEC: MO-187; ComponentLink1Description: Manufacturer URL; ComponentLink1URL: http://www.maximintegrated.com/; ComponentLink2Description: Datasheet; ComponentLink2URL: http://datasheets.maximintegrated.com/en/ds/MAX4373-MAX4375.pdf; ComponentLink3Description: Package Specification; ComponentLink3URL: http://pdfserv.maximintegrated.com/package_dwgs/21-0061.PDF
footprint MAXM-U10+2_N (SOP, 10-Leads, Body 3x3mm, Pitch 0.5mm, IPC Medium Density)
footprint MAXM-U10+2_L (SOP, 10-Leads, Body 3x3mm, Pitch 0.5mm, IPC High Density)
footprint MAXM-U10+2_M (SOP, 10-Leads, Body 3x3mm, Pitch 0.5mm, IPC Low Density)
pins: 1 VCC (power) "Supply Voltage Input", 2 OUT (out) "Voltage Output. VOUT is proportional to VSENSE (VRS+ - VRS-).", 3 CIN1 (in) "Comparator Input 1. Positive input of an internal comparator. The negative terminal is connected to a 0.6V internal reference.", 4 CIN2 (in) "Comparator Input 2. Terminal of a second internal comparator. The positive terminal for the MAX4374 and the negative terminal for the MAX4375. The other terminal is connected to a 0.6V internal reference.", 5 GND (power) "Ground", 6 ~{RESET} (in) "Reset Input. Resets the output latch of the comparator at CIN1.", 7 COUT2 (oc) "Open-Drain Comparator Output. Output of the second unlatched internal comparator.", 8 COUT1 (oc) "Open-Drain Comparator Output. Latching output of the comparator controlled by CIN1. Connect R\E\S\E\T\ to GND to disable the latch.", 9 RS- (in) "Load-Side Connection for the External Sense Resistor", 10 RS+ (in) "Power Connection to the External Sense Resistor"

## MAX4374HEUB+T
designator U?
Low-cost, Micropower, High-Side Current-Sense Amplifier + 2 Comparators + Reference, 100 V / V Gain, -40 to 85 degC, 10-Pin SOP (U10+2), Pb-Free, Tape and Reel; PartNumber: MAX4374HEUB+T; Bi-Dir. Curr. Sense: No; Gain: 20 V/V, 50 V/V ,100 V/V; DatasheetVersion: Rev. 4; PackageVersion: Rev. L, 07/2008; PackageReference: U10+2; PackageDescription: 10-Pin Micro-MAX, Thin Shrink Small-Outline (U10+2), Body 3 x 3 mm, Pitch 0.5 mm; Supplier 1: Digi-Key; Supplier Part Number 1: MAX4374HEUB+T-ND; Supplier 2: Mouser; Supplier Part Number 2: 700-MAX4374HEUB+T; Mounting Technology: Surface Mount; Code_JEDEC: MO-187; ComponentLink1Description: Manufacturer URL; ComponentLink1URL: http://www.maximintegrated.com/; ComponentLink2Description: Datasheet; ComponentLink2URL: http://datasheets.maximintegrated.com/en/ds/MAX4373-MAX4375.pdf; ComponentLink3Description: Package Specification; ComponentLink3URL: http://pdfserv.maximintegrated.com/package_dwgs/21-0061.PDF
footprint MAXM-U10+2_N (SOP, 10-Leads, Body 3x3mm, Pitch 0.5mm, IPC Medium Density)
footprint MAXM-U10+2_L (SOP, 10-Leads, Body 3x3mm, Pitch 0.5mm, IPC High Density)
footprint MAXM-U10+2_M (SOP, 10-Leads, Body 3x3mm, Pitch 0.5mm, IPC Low Density)
pins: 1 VCC (power) "Supply Voltage Input", 2 OUT (out) "Voltage Output. VOUT is proportional to VSENSE (VRS+ - VRS-).", 3 CIN1 (in) "Comparator Input 1. Positive input of an internal comparator. The negative terminal is connected to a 0.6V internal reference.", 4 CIN2 (in) "Comparator Input 2. Terminal of a second internal comparator. The positive terminal for the MAX4374 and the negative terminal for the MAX4375. The other terminal is connected to a 0.6V internal reference.", 5 GND (power) "Ground", 6 ~{RESET} (in) "Reset Input. Resets the output latch of the comparator at CIN1.", 7 COUT2 (oc) "Open-Drain Comparator Output. Output of the second unlatched internal comparator.", 8 COUT1 (oc) "Open-Drain Comparator Output. Latching output of the comparator controlled by CIN1. Connect R\E\S\E\T\ to GND to disable the latch.", 9 RS- (in) "Load-Side Connection for the External Sense Resistor", 10 RS+ (in) "Power Connection to the External Sense Resistor"

## MAX4374HEUB-T
designator U?
Low-cost, Micropower, High-Side Current-Sense Amplifier + 2 Comparators + Reference, 100 V / V Gain, -40 to 85 degC, 10-Pin SOP (U10-2), Tape and Reel; PartNumber: MAX4374HEUB-T; Bi-Dir. Curr. Sense: No; Gain: 20 V/V, 50 V/V ,100 V/V; DatasheetVersion: Rev. 4; PackageVersion: Rev. L, 07/2008; PackageReference: U10-2; PackageDescription: 10-Pin Micro-MAX, Thin Shrink Small-Outline (U10-2), Body 3 x 3 mm, Pitch 0.5 mm; Supplier 1: Digi-Key; Supplier Part Number 1: MAX4374HEUB-T-ND; Supplier 2: Mouser; Supplier Part Number 2: 700-MAX4374HEUB-T-; Mounting Technology: Surface Mount; Code_JEDEC: MO-187; ComponentLink1Description: Manufacturer URL; ComponentLink1URL: http://www.maximintegrated.com/; ComponentLink2Description: Datasheet; ComponentLink2URL: http://datasheets.maximintegrated.com/en/ds/MAX4373-MAX4375.pdf; ComponentLink3Description: Package Specification; ComponentLink3URL: http://pdfserv.maximintegrated.com/package_dwgs/21-0061.PDF
footprint MAXM-U10-2_N (SOP, 10-Leads, Body 3x3mm, Pitch 0.5mm, IPC Medium Density)
footprint MAXM-U10-2_L (SOP, 10-Leads, Body 3x3mm, Pitch 0.5mm, IPC High Density)
footprint MAXM-U10-2_M (SOP, 10-Leads, Body 3x3mm, Pitch 0.5mm, IPC Low Density)
pins: 1 VCC (power) "Supply Voltage Input", 2 OUT (out) "Voltage Output. VOUT is proportional to VSENSE (VRS+ - VRS-).", 3 CIN1 (in) "Comparator Input 1. Positive input of an internal comparator. The negative terminal is connected to a 0.6V internal reference.", 4 CIN2 (in) "Comparator Input 2. Terminal of a second internal comparator. The positive terminal for the MAX4374 and the negative terminal for the MAX4375. The other terminal is connected to a 0.6V internal reference.", 5 GND (power) "Ground", 6 ~{RESET} (in) "Reset Input. Resets the output latch of the comparator at CIN1.", 7 COUT2 (oc) "Open-Drain Comparator Output. Output of the second unlatched internal comparator.", 8 COUT1 (oc) "Open-Drain Comparator Output. Latching output of the comparator controlled by CIN1. Connect R\E\S\E\T\ to GND to disable the latch.", 9 RS- (in) "Load-Side Connection for the External Sense Resistor", 10 RS+ (in) "Power Connection to the External Sense Resistor"

## MAX4374TESD
designator U?
Low-cost, Micropower, High-Side Current-Sense Amplifier + 2 Comparators + Reference, 20 V / V Gain, -40 to 85 degC, 14-Pin SOIC (S14-1); PartNumber: MAX4374TESD; Bi-Dir. Curr. Sense: No; Gain: 20 V/V, 50 V/V ,100 V/V; DatasheetVersion: Rev. 4; PackageVersion: Rev. D, 10/2012; PackageReference: S14-1; PackageDescription: 14-Pin Small-Outline IC, Narrow (0.15in), Body 3.9 x 8.65 mm, Pitch 1.27 mm; Supplier 1: Digi-Key; Supplier Part Number 1: MAX4374TESD-ND; Supplier 2: Mouser; Supplier Part Number 2: 700-MAX4374TESD-NR; Mounting Technology: Surface Mount; Code_JEDEC: MS-012; ComponentLink1Description: Manufacturer URL; ComponentLink1URL: http://www.maximintegrated.com/; ComponentLink2Description: Datasheet; ComponentLink2URL: http://datasheets.maximintegrated.com/en/ds/MAX4373-MAX4375.pdf; ComponentLink3Description: Package Specification; ComponentLink3URL: http://pdfserv.maximintegrated.com/package_dwgs/21-0041.PDF
footprint MAXM-S14-1_N (SOIC, 14-Leads, Body 8.65x3.9mm, Pitch 1.27mm, IPC Medium Density)
footprint MAXM-S14-1_L (SOIC, 14-Leads, Body 8.65x3.9mm, Pitch 1.27mm, IPC High Density)
footprint MAXM-S14-1_M (SOIC, 14-Leads, Body 8.65x3.9mm, Pitch 1.27mm, IPC Low Density)
pins: 1 VCC (power) "Supply Voltage Input", 2 OUT (out) "Voltage Output. VOUT is proportional to VSENSE (VRS+ - VRS-).", 3 NC "No Connection. Not internally connected.", 4 CIN1 (in) "Comparator Input 1. Positive input of an internal comparator. The negative terminal is connected to a 0.6V internal reference.", 5 CIN2 (in) "Comparator Input 2. Terminal of a second internal comparator. The positive terminal for the MAX4374 and the negative terminal for the MAX4375. The other terminal is connected to a 0.6V internal reference.", 6 NC "No Connection. Not internally connected.", 7 GND (power) "Ground", 8 ~{RESET} (in) "Reset Input. Resets the output latch of the comparator at CIN1.", 9 NC "No Connection. Not internally connected.", 10 COUT2 (oc) "Open-Drain Comparator Output. Output of the second unlatched internal comparator.", 11 COUT1 (oc) "Open-Drain Comparator Output. Latching output of the comparator controlled by CIN1. Connect R\E\S\E\T\ to GND to disable the latch.", 12 NC "No Connection. Not internally connected.", 13 RS- (in) "Load-Side Connection for the External Sense Resistor", 14 RS+ (in) "Power Connection to the External Sense Resistor"

## MAX4374TESD+
designator U?
Low-cost, Micropower, High-Side Current-Sense Amplifier + 2 Comparators + Reference, 20 V / V Gain, -40 to 85 degC, 14-Pin SOIC (S14+1), Pb-Free; PartNumber: MAX4374TESD+; Bi-Dir. Curr. Sense: No; Gain: 20 V/V, 50 V/V ,100 V/V; DatasheetVersion: Rev. 4; PackageVersion: Rev. D, 10/2012; PackageReference: S14+1; PackageDescription: 14-Pin Small-Outline IC, Narrow (0.15in), Body 3.9 x 8.65 mm, Pitch 1.27 mm; Supplier 1: Digi-Key; Supplier Part Number 1: MAX4374TESD+-ND; Supplier 2: Mouser; Supplier Part Number 2: 700-MAX4374TESD; Mounting Technology: Surface Mount; Code_JEDEC: MS-012; ComponentLink1Description: Manufacturer URL; ComponentLink1URL: http://www.maximintegrated.com/; ComponentLink2Description: Datasheet; ComponentLink2URL: http://datasheets.maximintegrated.com/en/ds/MAX4373-MAX4375.pdf; ComponentLink3Description: Package Specification; ComponentLink3URL: http://pdfserv.maximintegrated.com/package_dwgs/21-0041.PDF
footprint MAXM-S14+1_N (SOIC, 14-Leads, Body 8.65x3.9mm, Pitch 1.27mm, IPC Medium Density)
footprint MAXM-S14+1_L (SOIC, 14-Leads, Body 8.65x3.9mm, Pitch 1.27mm, IPC High Density)
footprint MAXM-S14+1_M (SOIC, 14-Leads, Body 8.65x3.9mm, Pitch 1.27mm, IPC Low Density)
pins: 1 VCC (power) "Supply Voltage Input", 2 OUT (out) "Voltage Output. VOUT is proportional to VSENSE (VRS+ - VRS-).", 3 NC "No Connection. Not internally connected.", 4 CIN1 (in) "Comparator Input 1. Positive input of an internal comparator. The negative terminal is connected to a 0.6V internal reference.", 5 CIN2 (in) "Comparator Input 2. Terminal of a second internal comparator. The positive terminal for the MAX4374 and the negative terminal for the MAX4375. The other terminal is connected to a 0.6V internal reference.", 6 NC "No Connection. Not internally connected.", 7 GND (power) "Ground", 8 ~{RESET} (in) "Reset Input. Resets the output latch of the comparator at CIN1.", 9 NC "No Connection. Not internally connected.", 10 COUT2 (oc) "Open-Drain Comparator Output. Output of the second unlatched internal comparator.", 11 COUT1 (oc) "Open-Drain Comparator Output. Latching output of the comparator controlled by CIN1. Connect R\E\S\E\T\ to GND to disable the latch.", 12 NC "No Connection. Not internally connected.", 13 RS- (in) "Load-Side Connection for the External Sense Resistor", 14 RS+ (in) "Power Connection to the External Sense Resistor"

## MAX4374TESD+T
designator U?
Low-cost, Micropower, High-Side Current-Sense Amplifier + 2 Comparators + Reference, 20 V / V Gain, -40 to 85 degC, 14-Pin SOIC (S14+1), Pb-Free, Tape and Reel; PartNumber: MAX4374TESD+T; Bi-Dir. Curr. Sense: No; Gain: 20 V/V, 50 V/V ,100 V/V; DatasheetVersion: Rev. 4; PackageVersion: Rev. D, 10/2012; PackageReference: S14+1; PackageDescription: 14-Pin Small-Outline IC, Narrow (0.15in), Body 3.9 x 8.65 mm, Pitch 1.27 mm; Supplier 1: Digi-Key; Supplier Part Number 1: MAX4374TESD+T-ND; Supplier 2: Mouser; Supplier Part Number 2: 700-MAX4374TESD+T; Mounting Technology: Surface Mount; Code_JEDEC: MS-012; ComponentLink1Description: Manufacturer URL; ComponentLink1URL: http://www.maximintegrated.com/; ComponentLink2Description: Datasheet; ComponentLink2URL: http://datasheets.maximintegrated.com/en/ds/MAX4373-MAX4375.pdf; ComponentLink3Description: Package Specification; ComponentLink3URL: http://pdfserv.maximintegrated.com/package_dwgs/21-0041.PDF
footprint MAXM-S14+1_N (SOIC, 14-Leads, Body 8.65x3.9mm, Pitch 1.27mm, IPC Medium Density)
footprint MAXM-S14+1_L (SOIC, 14-Leads, Body 8.65x3.9mm, Pitch 1.27mm, IPC High Density)
footprint MAXM-S14+1_M (SOIC, 14-Leads, Body 8.65x3.9mm, Pitch 1.27mm, IPC Low Density)
pins: 1 VCC (power) "Supply Voltage Input", 2 OUT (out) "Voltage Output. VOUT is proportional to VSENSE (VRS+ - VRS-).", 3 NC "No Connection. Not internally connected.", 4 CIN1 (in) "Comparator Input 1. Positive input of an internal comparator. The negative terminal is connected to a 0.6V internal reference.", 5 CIN2 (in) "Comparator Input 2. Terminal of a second internal comparator. The positive terminal for the MAX4374 and the negative terminal for the MAX4375. The other terminal is connected to a 0.6V internal reference.", 6 NC "No Connection. Not internally connected.", 7 GND (power) "Ground", 8 ~{RESET} (in) "Reset Input. Resets the output latch of the comparator at CIN1.", 9 NC "No Connection. Not internally connected.", 10 COUT2 (oc) "Open-Drain Comparator Output. Output of the second unlatched internal comparator.", 11 COUT1 (oc) "Open-Drain Comparator Output. Latching output of the comparator controlled by CIN1. Connect R\E\S\E\T\ to GND to disable the latch.", 12 NC "No Connection. Not internally connected.", 13 RS- (in) "Load-Side Connection for the External Sense Resistor", 14 RS+ (in) "Power Connection to the External Sense Resistor"

## MAX4374TESD-T
designator U?
Low-cost, Micropower, High-Side Current-Sense Amplifier + 2 Comparators + Reference, 20 V / V Gain, -40 to 85 degC, 14-Pin SOIC (S14-1), Tape and Reel; PartNumber: MAX4374TESD-T; Bi-Dir. Curr. Sense: No; Gain: 20 V/V, 50 V/V ,100 V/V; DatasheetVersion: Rev. 4; PackageVersion: Rev. D, 10/2012; PackageReference: S14-1; PackageDescription: 14-Pin Small-Outline IC, Narrow (0.15in), Body 3.9 x 8.65 mm, Pitch 1.27 mm; Supplier 1: Digi-Key; Supplier Part Number 1: MAX4374TESD-T-ND; Supplier 2: Mouser; Supplier Part Number 2: 700-MAX4374TESD-T-; Mounting Technology: Surface Mount; Code_JEDEC: MS-012; ComponentLink1Description: Manufacturer URL; ComponentLink1URL: http://www.maximintegrated.com/; ComponentLink2Description: Datasheet; ComponentLink2URL: http://datasheets.maximintegrated.com/en/ds/MAX4373-MAX4375.pdf; ComponentLink3Description: Package Specification; ComponentLink3URL: http://pdfserv.maximintegrated.com/package_dwgs/21-0041.PDF
footprint MAXM-S14-1_N (SOIC, 14-Leads, Body 8.65x3.9mm, Pitch 1.27mm, IPC Medium Density)
footprint MAXM-S14-1_L (SOIC, 14-Leads, Body 8.65x3.9mm, Pitch 1.27mm, IPC High Density)
footprint MAXM-S14-1_M (SOIC, 14-Leads, Body 8.65x3.9mm, Pitch 1.27mm, IPC Low Density)
pins: 1 VCC (power) "Supply Voltage Input", 2 OUT (out) "Voltage Output. VOUT is proportional to VSENSE (VRS+ - VRS-).", 3 NC "No Connection. Not internally connected.", 4 CIN1 (in) "Comparator Input 1. Positive input of an internal comparator. The negative terminal is connected to a 0.6V internal reference.", 5 CIN2 (in) "Comparator Input 2. Terminal of a second internal comparator. The positive terminal for the MAX4374 and the negative terminal for the MAX4375. The other terminal is connected to a 0.6V internal reference.", 6 NC "No Connection. Not internally connected.", 7 GND (power) "Ground", 8 ~{RESET} (in) "Reset Input. Resets the output latch of the comparator at CIN1.", 9 NC "No Connection. Not internally connected.", 10 COUT2 (oc) "Open-Drain Comparator Output. Output of the second unlatched internal comparator.", 11 COUT1 (oc) "Open-Drain Comparator Output. Latching output of the comparator controlled by CIN1. Connect R\E\S\E\T\ to GND to disable the latch.", 12 NC "No Connection. Not internally connected.", 13 RS- (in) "Load-Side Connection for the External Sense Resistor", 14 RS+ (in) "Power Connection to the External Sense Resistor"

## MAX4374TEUB
designator U?
Low-cost, Micropower, High-Side Current-Sense Amplifier + 2 Comparators + Reference, 20 V / V Gain, -40 to 85 degC, 10-Pin SOP (U10-2); PartNumber: MAX4374TEUB; Bi-Dir. Curr. Sense: No; Gain: 20 V/V, 50 V/V ,100 V/V; DatasheetVersion: Rev. 4; PackageVersion: Rev. L, 07/2008; PackageReference: U10-2; PackageDescription: 10-Pin Micro-MAX, Thin Shrink Small-Outline (U10-2), Body 3 x 3 mm, Pitch 0.5 mm; Supplier 1: Digi-Key; Supplier Part Number 1: MAX4374TEUB-ND; Supplier 2: Mouser; Supplier Part Number 2: 700-MAX4374TEUB-NR; Mounting Technology: Surface Mount; Code_JEDEC: MO-187; ComponentLink1Description: Manufacturer URL; ComponentLink1URL: http://www.maximintegrated.com/; ComponentLink2Description: Datasheet; ComponentLink2URL: http://datasheets.maximintegrated.com/en/ds/MAX4373-MAX4375.pdf; ComponentLink3Description: Package Specification; ComponentLink3URL: http://pdfserv.maximintegrated.com/package_dwgs/21-0061.PDF
footprint MAXM-U10-2_N (SOP, 10-Leads, Body 3x3mm, Pitch 0.5mm, IPC Medium Density)
footprint MAXM-U10-2_L (SOP, 10-Leads, Body 3x3mm, Pitch 0.5mm, IPC High Density)
footprint MAXM-U10-2_M (SOP, 10-Leads, Body 3x3mm, Pitch 0.5mm, IPC Low Density)
pins: 1 VCC (power) "Supply Voltage Input", 2 OUT (out) "Voltage Output. VOUT is proportional to VSENSE (VRS+ - VRS-).", 3 CIN1 (in) "Comparator Input 1. Positive input of an internal comparator. The negative terminal is connected to a 0.6V internal reference.", 4 CIN2 (in) "Comparator Input 2. Terminal of a second internal comparator. The positive terminal for the MAX4374 and the negative terminal for the MAX4375. The other terminal is connected to a 0.6V internal reference.", 5 GND (power) "Ground", 6 ~{RESET} (in) "Reset Input. Resets the output latch of the comparator at CIN1.", 7 COUT2 (oc) "Open-Drain Comparator Output. Output of the second unlatched internal comparator.", 8 COUT1 (oc) "Open-Drain Comparator Output. Latching output of the comparator controlled by CIN1. Connect R\E\S\E\T\ to GND to disable the latch.", 9 RS- (in) "Load-Side Connection for the External Sense Resistor", 10 RS+ (in) "Power Connection to the External Sense Resistor"

## MAX4374TEUB+
designator U?
Low-cost, Micropower, High-Side Current-Sense Amplifier + 2 Comparators + Reference, 20 V / V Gain, -40 to 85 degC, 10-Pin SOP (U10+2), Pb-Free; PartNumber: MAX4374TEUB+; Bi-Dir. Curr. Sense: No; Gain: 20 V/V, 50 V/V ,100 V/V; DatasheetVersion: Rev. 4; PackageVersion: Rev. L, 07/2008; PackageReference: U10+2; PackageDescription: 10-Pin Micro-MAX, Thin Shrink Small-Outline (U10+2), Body 3 x 3 mm, Pitch 0.5 mm; Supplier 1: Digi-Key; Supplier Part Number 1: MAX4374TEUB+-ND; Supplier 2: Mouser; Supplier Part Number 2: 700-MAX4374TEUB; Mounting Technology: Surface Mount; Code_JEDEC: MO-187; ComponentLink1Description: Manufacturer URL; ComponentLink1URL: http://www.maximintegrated.com/; ComponentLink2Description: Datasheet; ComponentLink2URL: http://datasheets.maximintegrated.com/en/ds/MAX4373-MAX4375.pdf; ComponentLink3Description: Package Specification; ComponentLink3URL: http://pdfserv.maximintegrated.com/package_dwgs/21-0061.PDF
footprint MAXM-U10+2_N (SOP, 10-Leads, Body 3x3mm, Pitch 0.5mm, IPC Medium Density)
footprint MAXM-U10+2_L (SOP, 10-Leads, Body 3x3mm, Pitch 0.5mm, IPC High Density)
footprint MAXM-U10+2_M (SOP, 10-Leads, Body 3x3mm, Pitch 0.5mm, IPC Low Density)
pins: 1 VCC (power) "Supply Voltage Input", 2 OUT (out) "Voltage Output. VOUT is proportional to VSENSE (VRS+ - VRS-).", 3 CIN1 (in) "Comparator Input 1. Positive input of an internal comparator. The negative terminal is connected to a 0.6V internal reference.", 4 CIN2 (in) "Comparator Input 2. Terminal of a second internal comparator. The positive terminal for the MAX4374 and the negative terminal for the MAX4375. The other terminal is connected to a 0.6V internal reference.", 5 GND (power) "Ground", 6 ~{RESET} (in) "Reset Input. Resets the output latch of the comparator at CIN1.", 7 COUT2 (oc) "Open-Drain Comparator Output. Output of the second unlatched internal comparator.", 8 COUT1 (oc) "Open-Drain Comparator Output. Latching output of the comparator controlled by CIN1. Connect R\E\S\E\T\ to GND to disable the latch.", 9 RS- (in) "Load-Side Connection for the External Sense Resistor", 10 RS+ (in) "Power Connection to the External Sense Resistor"

## MAX4374TEUB+T
designator U?
Low-cost, Micropower, High-Side Current-Sense Amplifier + 2 Comparators + Reference, 20 V / V Gain, -40 to 85 degC, 10-Pin SOP (U10+2), Pb-Free, Tape and Reel; PartNumber: MAX4374TEUB+T; Bi-Dir. Curr. Sense: No; Gain: 20 V/V, 50 V/V ,100 V/V; DatasheetVersion: Rev. 4; PackageVersion: Rev. L, 07/2008; PackageReference: U10+2; PackageDescription: 10-Pin Micro-MAX, Thin Shrink Small-Outline (U10+2), Body 3 x 3 mm, Pitch 0.5 mm; Supplier 1: Digi-Key; Supplier Part Number 1: MAX4374TEUB+T-ND; Supplier 2: Mouser; Supplier Part Number 2: 700-MAX4374TEUB+T; Mounting Technology: Surface Mount; Code_JEDEC: MO-187; ComponentLink1Description: Manufacturer URL; ComponentLink1URL: http://www.maximintegrated.com/; ComponentLink2Description: Datasheet; ComponentLink2URL: http://datasheets.maximintegrated.com/en/ds/MAX4373-MAX4375.pdf; ComponentLink3Description: Package Specification; ComponentLink3URL: http://pdfserv.maximintegrated.com/package_dwgs/21-0061.PDF
footprint MAXM-U10+2_N (SOP, 10-Leads, Body 3x3mm, Pitch 0.5mm, IPC Medium Density)
footprint MAXM-U10+2_L (SOP, 10-Leads, Body 3x3mm, Pitch 0.5mm, IPC High Density)
footprint MAXM-U10+2_M (SOP, 10-Leads, Body 3x3mm, Pitch 0.5mm, IPC Low Density)
pins: 1 VCC (power) "Supply Voltage Input", 2 OUT (out) "Voltage Output. VOUT is proportional to VSENSE (VRS+ - VRS-).", 3 CIN1 (in) "Comparator Input 1. Positive input of an internal comparator. The negative terminal is connected to a 0.6V internal reference.", 4 CIN2 (in) "Comparator Input 2. Terminal of a second internal comparator. The positive terminal for the MAX4374 and the negative terminal for the MAX4375. The other terminal is connected to a 0.6V internal reference.", 5 GND (power) "Ground", 6 ~{RESET} (in) "Reset Input. Resets the output latch of the comparator at CIN1.", 7 COUT2 (oc) "Open-Drain Comparator Output. Output of the second unlatched internal comparator.", 8 COUT1 (oc) "Open-Drain Comparator Output. Latching output of the comparator controlled by CIN1. Connect R\E\S\E\T\ to GND to disable the latch.", 9 RS- (in) "Load-Side Connection for the External Sense Resistor", 10 RS+ (in) "Power Connection to the External Sense Resistor"